# Altium schematic symbol library 电源芯片.SchLib: 24 symbols
Pins are listed as number, name and electrical type; pins without a type are passive.

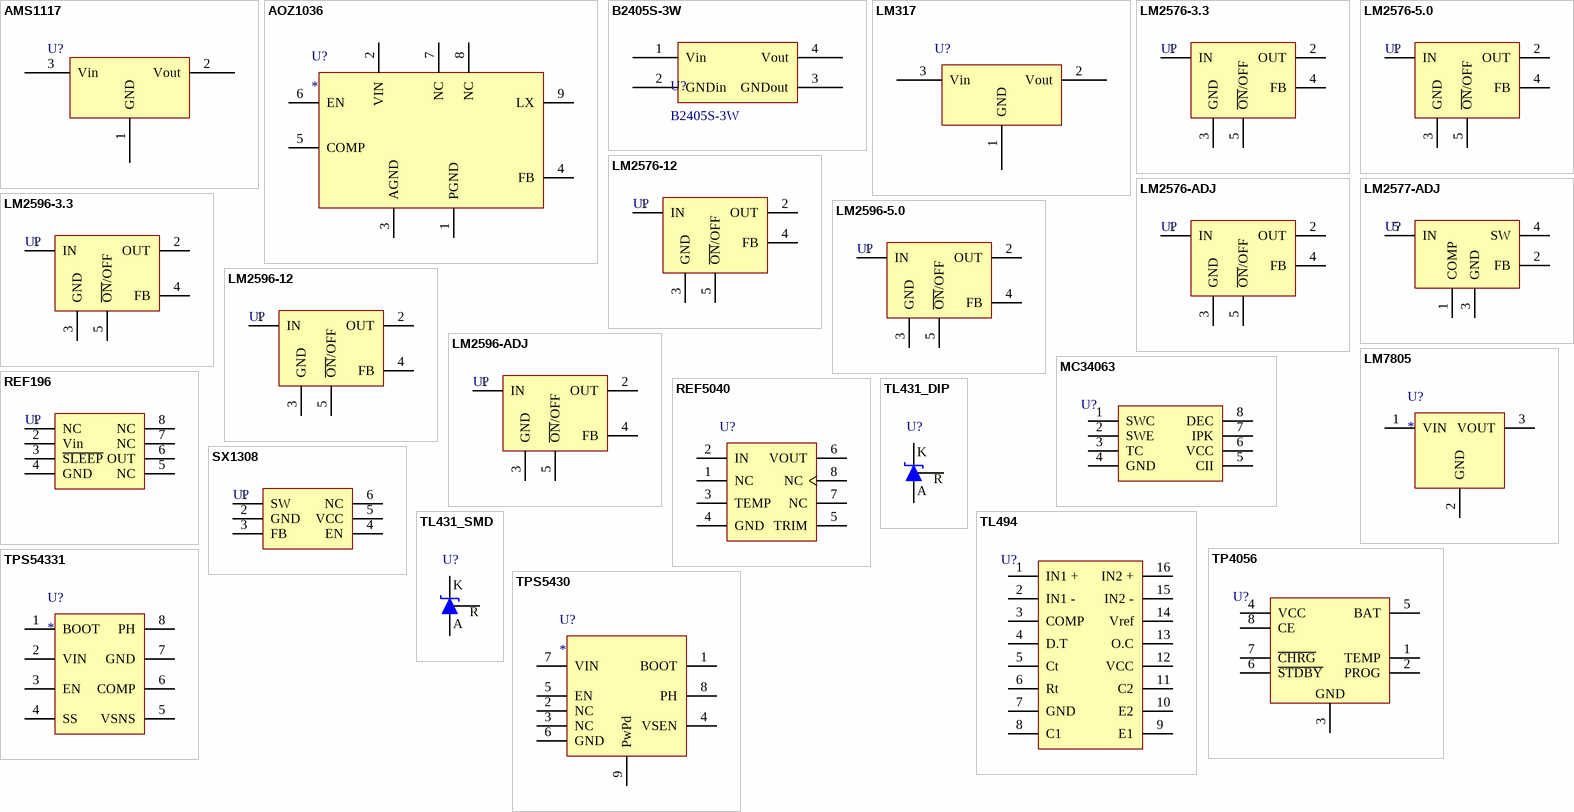
[diagram p0: symbols AMS1117 to TPS54331]

## AMS1117
designator U?
三端稳压芯片
footprint SOT223
footprint TO252 (252晶体管)
footprint SOT89
pins: 1 GND, 2 Vout, 3 Vin

## AOZ1036
designator U?
footprint SOP8-Pad
pins: 1 PGND, 2 VIN, 3 AGND, 4 FB, 5 COMP, 6 EN, 7 NC, 8 NC, 9 LX

## B2405S-3W
designator U?
pins: 1 Vin, 2 GNDin, 3 GNDout, 4 Vout

## LM317
designator U?
可调线性稳压芯片
footprint TO220A (220，3脚晶体管)
footprint TO263
pins: 1 GND, 2 Vout, 3 Vin

## LM2576-3.3
designator U?
DC降压芯片
footprint TO263-5A (263，5脚晶体管)
footprint TO220-5A
pins: 1 IN (power), 2 OUT (power), 3 GND (power), 4 FB, 5 ~{ON}/OFF

## LM2576-5.0
designator U?
DC降压芯片
footprint TO220-5A
footprint TO263-5A (263，5脚晶体管)
pins: 1 IN (power), 2 OUT (power), 3 GND (power), 4 FB, 5 ~{ON}/OFF

## LM2576-12
designator U?
DC降压芯片
footprint TO220-5A
footprint TO263-5A (263，5脚晶体管)
pins: 1 IN (power), 2 OUT (power), 3 GND (power), 4 FB, 5 ~{ON}/OFF

## LM2576-ADJ
designator U?
DC降压芯片
footprint TO220-5A
footprint TO263-5A (263，5脚晶体管)
pins: 1 IN (power), 2 OUT (power), 3 GND (power), 4 FB, 5 ~{ON}/OFF

## LM2577-ADJ
designator U?
DC升压芯片
footprint TO263-5A (263，5脚晶体管)
pins: 1 COMP, 2 FB, 3 GND, 4 SW (power), 5 IN (power)

## LM2596-3.3
designator U?
DC降压芯片
footprint TO263-5A (263，5脚晶体管)
pins: 1 IN (power), 2 OUT (power), 3 GND (power), 4 FB, 5 ~{ON}/OFF

## LM2596-5.0
designator U?
DC降压芯片
footprint TO263-5A (263，5脚晶体管)
pins: 1 IN (power), 2 OUT (power), 3 GND (power), 4 FB, 5 ~{ON}/OFF

## LM2596-12
designator U?
DC降压芯片
footprint TO263-5A (263，5脚晶体管)
pins: 1 IN (power), 2 OUT (power), 3 GND (power), 4 FB, 5 ~{ON}/OFF

## LM2596-ADJ
designator U?
footprint TO263-5A (263，5脚晶体管)
pins: 1 IN (power), 2 OUT (power), 3 GND (power), 4 FB, 5 ~{ON}/OFF

## LM7805
designator U?
footprint TO220A (220，3脚晶体管)
footprint TO252 (252晶体管)
pins: 1 VIN, 2 GND, 3 VOUT

## MC34063
designator U?
footprint DIP8
footprint DIP8_SS (DIP8-SMD Socket)
footprint SOP8
pins: 1 SWC, 2 SWE, 3 TC, 4 GND, 5 CII, 6 VCC, 7 IPK, 8 DEC

## REF196
designator U?
3V3基准电压源
footprint SOP8
pins: 1 NC, 2 Vin, 3 ~{SLEEP}, 4 GND, 5 NC, 6 OUT, 7 NC, 8 NC

## REF5040
designator U?
高精度电压基准
footprint SOP8
pins: 1 NC, 2 IN, 3 TEMP, 4 GND, 5 TRIM, 6 VOUT, 7 NC, 8 NC

## SX1308
designator U?
可调升压芯片
footprint SOT23-6
pins: 1 SW, 2 GND, 3 FB, 4 EN, 5 VCC, 6 NC

## TL431_DIP
designator U?
可调基准稳压芯片
footprint TO92A
footprint TO92B
pins: A, K, R

## TL431_SMD
designator U?
可调基准稳压芯片
footprint SOT89
pins: A, K, R

## TL494
designator U?
电源管理IC
footprint DIP16
footprint DIP16_SS (DIP16-SMD Socket)
pins: 1 IN1 +, 2 IN1 -, 3 COMP, 4 D.T, 5 Ct, 6 Rt, 7 GND, 8 C1, 9 E1, 10 E2, 11 C2, 12 VCC, 13 O.C, 14 Vref, 15 IN2 -, 16 IN2 +

## TP4056
designator U?
footprint SOP8
pins: 1 TEMP, 2 PROG, 3 GND, 4 VCC, 5 BAT, 6 ~{STDBY}, 7 ~{CHRG}, 8 CE

## TPS5430
designator U?
footprint SOP8-Pad
pins: 1 BOOT, 2 NC, 3 NC, 4 VSEN, 5 EN, 6 GND, 7 VIN, 8 PH, 9 PwPd

## TPS54331
designator U?
footprint SOP8-Pad
pins: 1 BOOT, 2 VIN, 3 EN, 4 SS, 5 VSNS, 6 COMP, 7 GND, 8 PH